# EAGLE library part AT86RF212 (library SophiEaglev9)
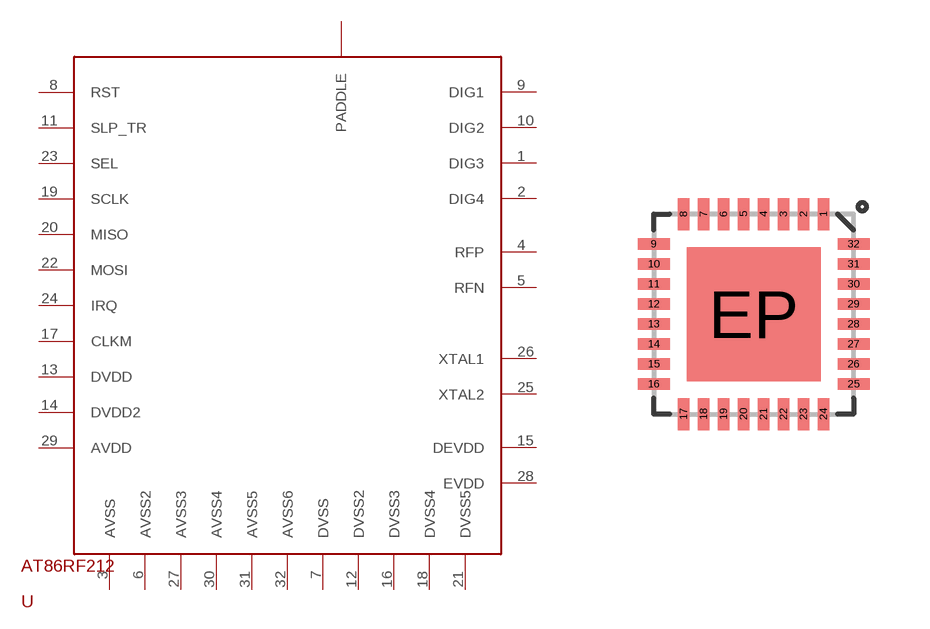
[diagram p6: symbol with the pads of QFN32; footprint QFN32]

Designator prefix -

## AT86RF212  [QFN32]
1  DIG3
2  DIG4
3  AVSS
4  RFP
5  RFN
6  AVSS2
7  DVSS
8  RST
9  DIG1
10  DIG2
11  SLP_TR
12  DVSS2
13  DVDD
14  DVDD2
15  DEVDD
16  DVSS3
17  CLKM
18  DVSS4
19  SCLK
20  MISO
21  DVSS5
22  MOSI
23  SEL
24  IRQ
25  XTAL2
26  XTAL1
27  AVSS3
28  EVDD
29  AVDD
30  AVSS4
31  AVSS5
32  AVSS6
EP  PADDLE

## Footprint QFN32 (pad centres in mm)
smd 0.285 x 0.8: 1 4.29,5.04; 2 3.79,5.04; 3 3.29,5.04; 4 2.79,5.04; 5 2.29,5.04; 6 1.79,5.04; 7 1.29,5.04; 8 0.79,5.04; 17 0.79,0.04; 18 1.29,0.04; 19 1.79,0.04; 20 2.29,0.04; 21 2.79,0.04; 22 3.29,0.04; 23 3.79,0.04; 24 4.29,0.04
smd 0.8 x 0.285: 9 0.04,4.29; 10 0.04,3.79; 11 0.04,3.29; 12 0.04,2.79; 13 0.04,2.29; 14 0.04,1.79; 15 0.04,1.29; 16 0.04,0.79; 25 5.04,0.79; 26 5.04,1.29; 27 5.04,1.79; 28 5.04,2.29; 29 5.04,2.79; 30 5.04,3.29; 31 5.04,3.79; 32 5.04,4.29
smd 3.35 x 3.35: EP 2.54,2.54